# Altium footprint library USB2AER3.PcbLib: 23 footprints (part 2 of 2)
Each footprint in its own frame and in the unit in brackets; x right, y up, seen from the top. Pads: shape width x height; smd on the part's side, far side on the other; paste and mask are expansions set on the pad; w line width, h text height; cw(c..) or ccw(c..) is an arc to the next point about the centre after c.
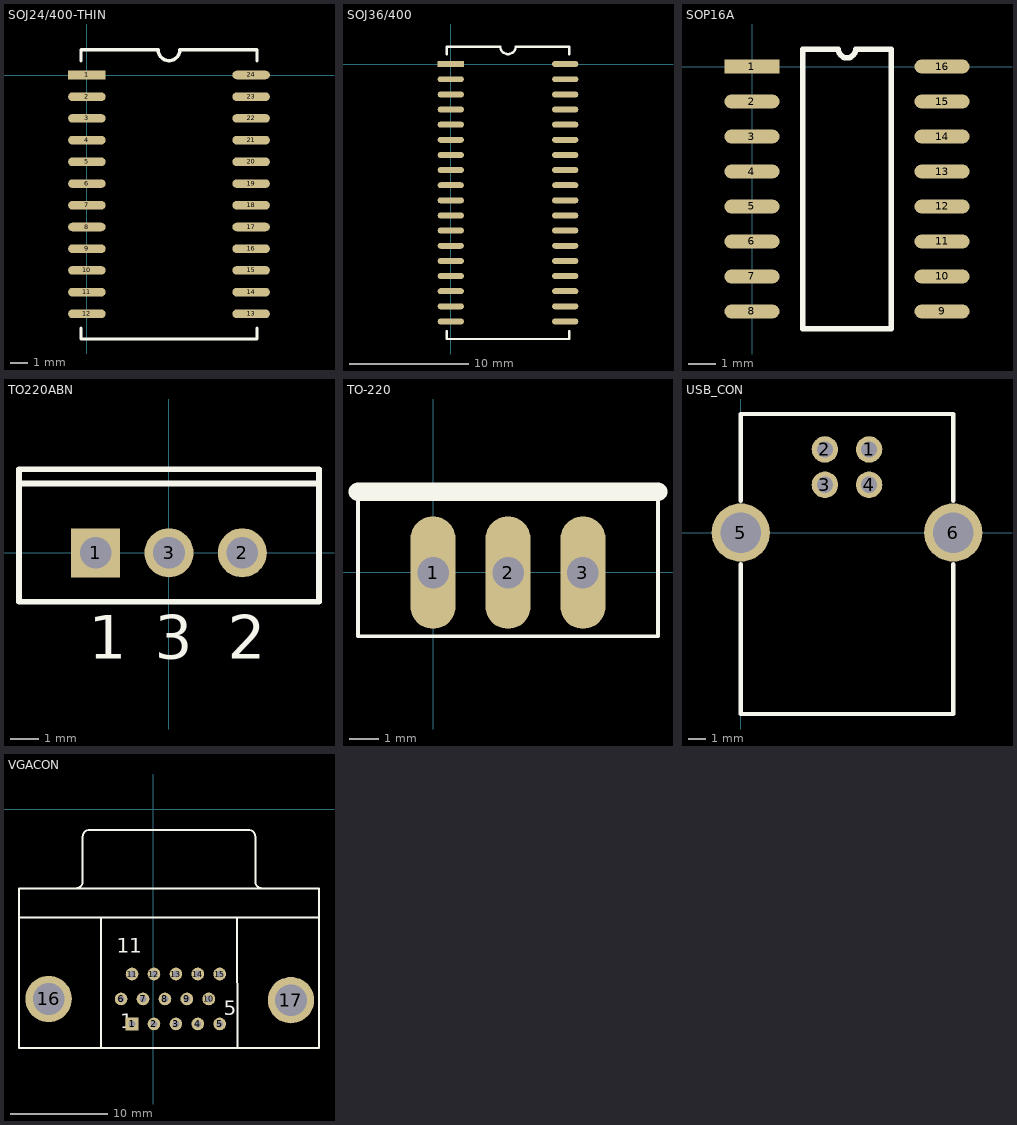
[diagram p1: the footprints below, top view; thin cyan lines are the x and y axes]

## SOJ24/400-THIN [mm]
pads (24):
  rect 2.2x0.5 smd: 1(0.005,0.009)
  oval 2.2x0.5 smd: 2(0.005,-1.261) 3(0.005,-2.531) 4(0.005,-3.801) 5(0.005,-5.071) 6(0.005,-6.341) 7(0.005,-7.611) 8(0.005,-8.881) 9(0.005,-10.151) 10(0.005,-11.421) 11(0.005,-12.691) 12(0.005,-13.961) 13(9.605,-13.961) 14(9.605,-12.691) 15(9.605,-11.421) 16(9.605,-10.151) 17(9.605,-8.881) 18(9.605,-7.611) 19(9.605,-6.341) 20(9.605,-5.071) 21(9.605,-3.801) 22(9.605,-2.531) 23(9.605,-1.261) 24(9.605,0.009)
Top Overlay:
  lines w0.2: -0.34,-14.786 -0.34,-15.431 9.95,-15.431 9.95,-14.786 ; -0.34,0.834 -0.34,1.479 4.17,1.479 ccw(c4.805,1.479) 5.44,1.479 9.95,1.479 9.95,0.834

## SOJ36/400 [mm]
pads (36):
  rect 2.2x0.5 smd: 1(0.005,0.005)
  oval 2.2x0.5 smd: 2(0.005,-1.265) 3(0.005,-2.535) 4(0.005,-3.805) 5(0.005,-5.075) 6(0.005,-6.345) 7(0.005,-7.615) 8(0.005,-8.885) 9(0.005,-10.155) 10(0.005,-11.425) 11(0.005,-12.695) 12(0.005,-13.965) 13(0.005,-15.235) 14(0.005,-16.505) 15(0.005,-17.775) 16(0.005,-19.045) 17(0.005,-20.315) 18(0.005,-21.585) 19(9.605,-21.585) 20(9.605,-20.315) 21(9.605,-19.045) 22(9.605,-17.775) 23(9.605,-16.505) 24(9.605,-15.235) 25(9.605,-13.965) 26(9.605,-12.695) 27(9.605,-11.425) 28(9.605,-10.155) 29(9.605,-8.885) 30(9.605,-7.615) 31(9.605,-6.345) 32(9.605,-5.075) 33(9.605,-3.805) 34(9.605,-2.535) 35(9.605,-1.265) 36(9.605,0.005)
Top Overlay:
  lines w0.2: -0.34,-22.41 -0.34,-23.055 9.95,-23.055 9.95,-22.41 ; -0.34,0.83 -0.34,1.475 4.17,1.475 ccw(c4.805,1.475) 5.44,1.475 9.95,1.475 9.95,0.83

## SOP16A [mm]
pads (16):
  rect 2x0.5 smd: 1(-0.003,0.006)
  oval 2x0.5 smd: 2(-0.003,-1.264) 3(-0.003,-2.534) 4(-0.003,-3.804) 5(-0.003,-5.074) 6(-0.003,-6.344) 7(-0.003,-7.614) 8(-0.003,-8.884) 9(6.897,-8.884) 10(6.897,-7.614) 11(6.897,-6.344) 12(6.897,-5.074) 13(6.897,-3.804) 14(6.897,-2.534) 15(6.897,-1.264) 16(6.897,0.006)
Top Overlay:
  lines w0.2: 1.832,-9.519 5.062,-9.519 5.062,0.641 3.765,0.641 cw(c3.447,0.641) 3.13,0.641 1.832,0.641 1.832,-9.519

## TO220ABN [mm]
pads (3):
  rect 1.7x1.7 hole 1.1: 1(-2.529,0.004)
  round 1.7 hole 1.1: 2(2.551,0.004) 3(0.011,0.004)
Top Overlay:
  lines w0.2: -5.189,2.404 5.211,2.404 ; -5.189,-1.696 5.211,-1.696 5.211,2.904 -5.189,2.904 -5.189,-1.696
  text "3" at -0.489,-3.671 h1.5
  text "2" at 2.051,-3.671 h1.5
  text "1" at -2.779,-3.671 h1.5

## TO-220 [mil]
pads (3):
  oval 60x150 hole 42: 1(-0.48,-0.35) 2(99.52,-0.35) 3(199.52,-0.35)
Top Overlay:
  lines w5: -100.48,107.65 -100.48,-85.35 299.52,-85.35 299.52,107.65
  lines w25: -100.48,107.65 299.52,107.65

## USB_CON [mm]
pads (6):
  round 1.5 hole 0.92: 1(7.257,4.717) 2(4.757,4.717) 3(4.757,2.717) 4(7.257,2.717)
  round 3.3 hole 2.3: 5(-0.013,0.007) 6(12.027,0.007)
Top Overlay:
  lines w0.254: -0.013,-1.793 -0.013,-10.273 12.027,-10.273 12.027,-1.793 ; -0.013,1.807 -0.013,6.727 12.027,6.727 12.027,1.807

## VGACON [mm] "Conector VGA"
pads (17):
  rect 1.3x1.3 hole 0.7: 1(-2.188,-22.063)
  round 1.3 hole 0.7: 2(0.062,-22.063) 3(2.313,-22.063) 4(4.563,-22.063) 5(6.813,-22.063) 6(-3.313,-19.5) 7(-1.062,-19.5) 8(1.188,-19.5) 9(3.437,-19.5) 10(5.687,-19.5) 11(-2.188,-16.937) 12(0.062,-16.937) 13(2.313,-16.937) 14(4.563,-16.937) 15(6.813,-16.937)
  round 4.76 hole 3.26: 16(-10.75,-19.5) 17(14.125,-19.625)
Top Overlay:
  lines w0.2: -13.794,-11.144 17.006,-11.144 ; -7.954,-8.139 ccw(c-7.954,-7.444) -7.259,-7.444 -7.259,-2.844 ; -7.254,-2.839 cw(c-6.559,-2.839) -6.559,-2.144 9.771,-2.144 cw(c9.771,-2.839) 10.466,-2.839 ; -5.394,-11.144 -5.375,-24.544 ; 8.606,-11.144 8.625,-24.544 ; 10.471,-2.844 10.471,-7.444 ccw(c11.166,-7.444) 11.166,-8.139 ; -13.794,-24.544 -13.794,-8.144 17.006,-8.144 17.006,-24.544 -13.794,-24.544
  text "1" at -3.375,-22.5 h1.5
  text "5" at 7.25,-21.187 h1.5
  text "11" at -3.75,-14.75 h1.5